# EAGLE library part JMP/6P/SIP (library audioint)
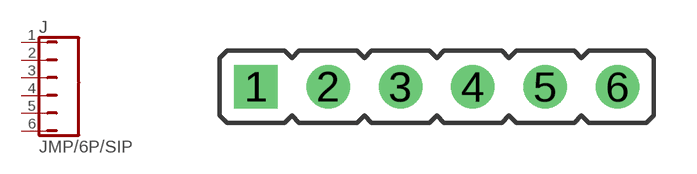
[diagram p12: symbol with the pads of JMP/6P/SIP; footprint JMP/6P/SIP]

Designator prefix J

## JMP/6P/SIP  [JMP/6P/SIP]
1  1  pas
2  2  pas
3  3  pas
4  4  pas
5  5  pas
6  6  pas

## Footprint JMP/6P/SIP (pad centres in mm)
drill 0.914 pad 1.524 square: 1 -6.35,0
drill 0.914 pad 1.524 round: 2 -3.81,0; 3 -1.27,0; 4 1.27,0; 5 3.81,0; 6 6.35,0